# Altium schematic symbol library terminal_blocks.SchLib: 44 symbols
Pins are listed as number, name and electrical type; pins without a type are passive.

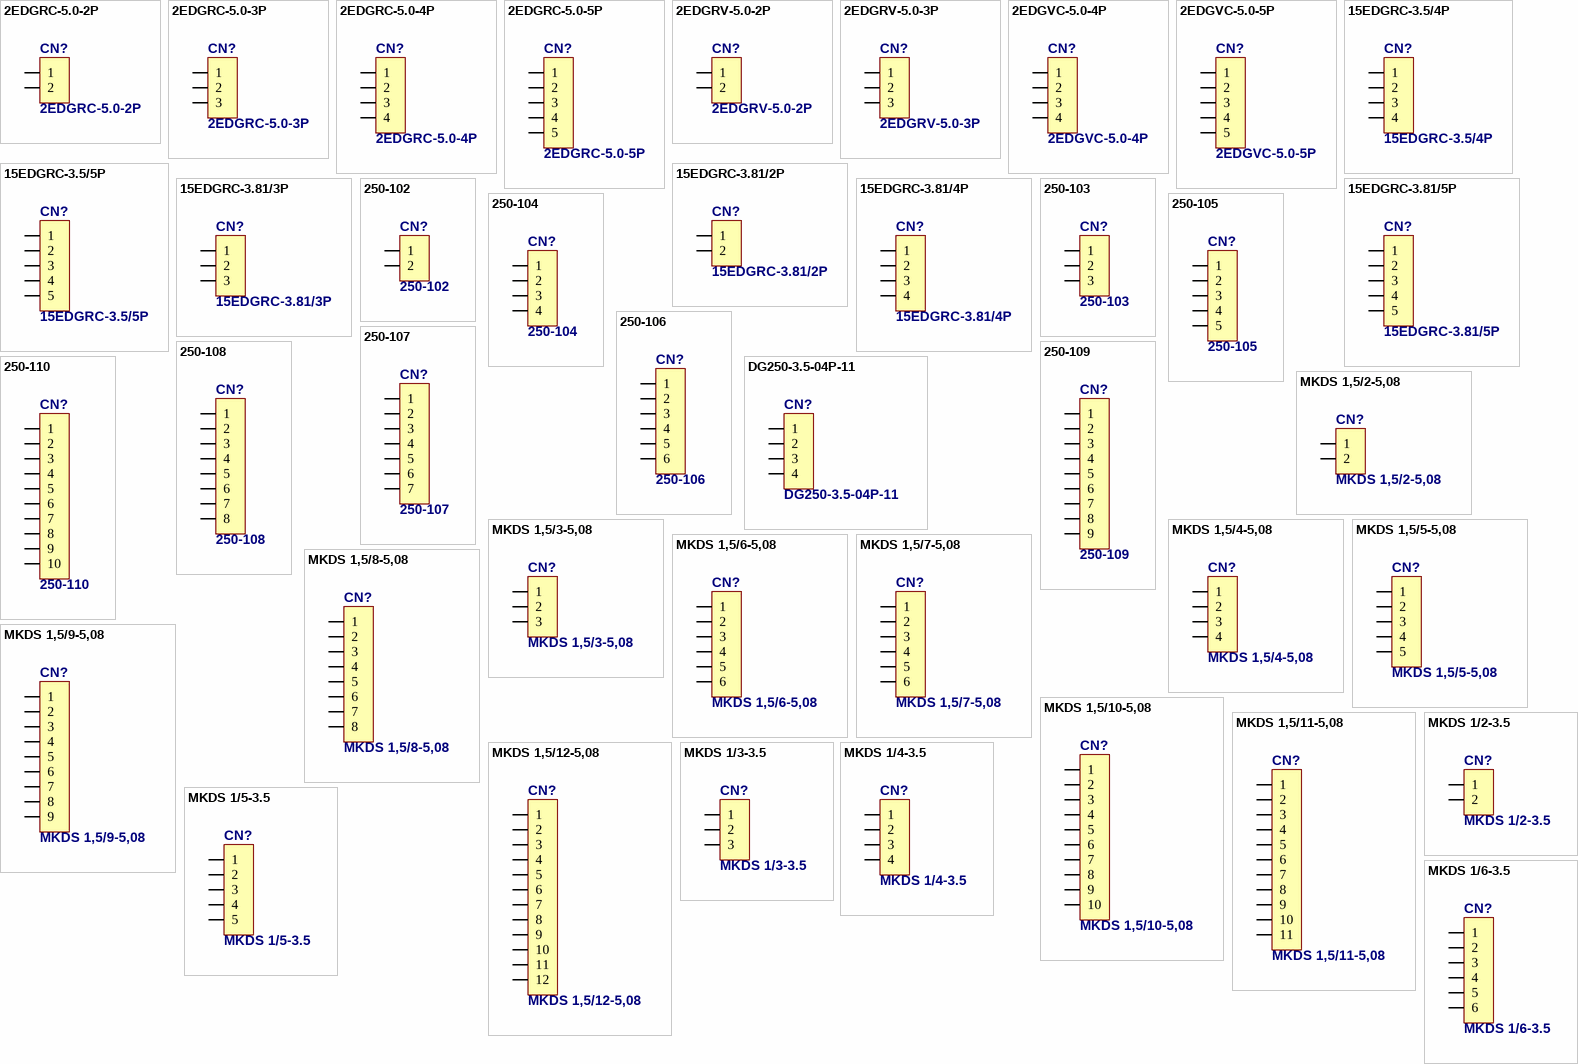
[diagram p0: symbols 2EDGRC-5.0-2P to MKDS 1/6-3.5]

## 2EDGRC-5.0-2P
designator CN?
Degson 20A, 320V, 2 Pole Plug-in Terminal Block
footprint 2EDGRC-5.0-2P_WO_CN (Degson 20A, 320V, 2 Pole Plug-in Terminal Block)
footprint 2EDGRC-5.0-2P_W_CN (Degson 20A, 320V, 2 Pole Plug-in Terminal Block)
pins: 1, 2

## 2EDGRC-5.0-3P
designator CN?
Degson 20A, 320V, 3 Pole Plug-in Terminal Block
footprint 2EDGRC-5.0-3P_WO_CN (Degson 20A, 320V, 3 Pole Plug-in Terminal Block)
footprint 2EDGRC-5.0-3P_W_CN (Degson 20A, 320V, 3 Pole Plug-in Terminal Block)
pins: 1, 2, 3

## 2EDGRC-5.0-4P
designator CN?
Degson 20A, 320V, 4 Pole Plug-in Terminal Block
footprint 2EDGRC-5.0-4P_WO_CN (Degson 20A, 320V, 4 Pole Plug-in Terminal Block)
footprint 2EDGRC-5.0-4P_W_CN (Degson 20A, 320V, 4 Pole Plug-in Terminal Block)
pins: 1, 2, 3, 4

## 2EDGRC-5.0-5P
designator CN?
Degson 20A, 320V, 5 Pole Plug-in Terminal Block
footprint 2EDGRC-5.0-5P_WO_CN (Degson 20A, 320V, 5 Pole Plug-in Terminal Block)
footprint 2EDGRC-5.0-5P_W_CN (Degson 20A, 320V, 5 Pole Plug-in Terminal Block)
pins: 1, 2, 3, 4, 5

## 2EDGRV-5.0-2P
designator CN?
Degson 20A, 320V, 2 Pole Plug-in Terminal Block
footprint 2EDGVC-5.0-2P_WO_CN (Degson 20A, 320V, 2 Pole Plug-in Terminal Block)
footprint 2EDGVC-5.0-2P_W_CN (Degson 20A, 320V, 2 Pole Plug-in Terminal Block)
pins: 1, 2

## 2EDGRV-5.0-3P
designator CN?
Degson 20A, 320V, 3 Pole Plug-in Terminal Block
footprint 2EDGVC-5.0-3P_WO_CN (Degson 20A, 320V, 3 Pole Plug-in Terminal Block)
footprint 2EDGVC-5.0-3P_W_CN (Degson 20A, 320V, 3 Pole Plug-in Terminal Block)
pins: 1, 2, 3

## 2EDGVC-5.0-4P
designator CN?
Degson 20A, 320V, 4 Pole Plug-in Terminal Block
footprint 2EDGVC-5.0-4P_WO_CN (Degson 20A, 320V, 4 Pole Plug-in Terminal Block)
footprint 2EDGVC-5.0-4P_W_CN (Degson 20A, 320V, 4 Pole Plug-in Terminal Block)
pins: 1, 2, 3, 4

## 2EDGVC-5.0-5P
designator CN?
Degson 20A, 320V, 5 Pole Plug-in Terminal Block
footprint 2EDGVC-5.0-5P_WO_CN (Degson 20A, 320V, 5 Pole Plug-in Terminal Block)
footprint 2EDGVC-5.0-5P_W_CN (Degson 20A, 320V, 5 Pole Plug-in Terminal Block)
pins: 1, 2, 3, 4, 5

## 15EDGRC-3.5/4P
designator CN?
Degson 7A, 250V, 4 Pole Plug-in Terminal Block
footprint 15EDGRC-3.5/4P_WO_CN (Degson 7A, 250V, 4 Pole Plug-in Terminal Block)
footprint 15EDGRC-3.5/4P_W_CN (Degson 7A, 250V, 4 Pole Plug-in Terminal Block)
pins: 1, 2, 3, 4

## 15EDGRC-3.5/5P
designator CN?
Degson 7A, 250V, 5 Pole Plug-in Terminal Block
footprint 15EDGRC-3.5/5P_WO_CN (Degson 7A, 250V, 5 Pole Plug-in Terminal Block)
footprint 15EDGRC-3.5/5P_W_CN (Degson 7A, 250V, 5 Pole Plug-in Terminal Block)
pins: 1, 2, 3, 4, 5

## 15EDGRC-3.81/2P
designator CN?
Degson 7A, 250V, 2 Pole Plug-in Terminal Block
footprint 15EDGRC-3.81/2P_WO_CN (Degson 7A, 250V, 2 Pole Plug-in Terminal Block)
footprint 15EDGRC-3.81/2P_W_CN (Degson 7A, 250V, 2 Pole Plug-in Terminal Block)
pins: 1, 2

## 15EDGRC-3.81/3P
designator CN?
Degson 7A, 250V, 3 Pole Plug-in Terminal Block
footprint 15EDGRC-3.81/3P_WO_CN (Degson 7A, 250V, 3 Pole Plug-in Terminal Block)
footprint 15EDGRC-3.81/3P_W_CN (Degson 7A, 250V, 3 Pole Plug-in Terminal Block)
pins: 1, 2, 3

## 15EDGRC-3.81/4P
designator CN?
Degson 7A, 250V, 4 Pole Plug-in Terminal Block
footprint 15EDGRC-3.81/4P_W_CN (Degson 7A, 250V, 4 Pole Plug-in Terminal Block)
footprint 15EDGRC-3.81/4P_WO_CN (Degson 7A, 250V, 4 Pole Plug-in Terminal Block)
pins: 1, 2, 3, 4

## 15EDGRC-3.81/5P
designator CN?
Degson 7A, 250V, 5 Pole Plug-in Terminal Block
footprint 15EDGRC-3.81/5P_W_CN (Degson 7A, 250V, 5 Pole Plug-in Terminal Block)
footprint 15EDGRC-3.81/5P_WO_CN (Degson 7A, 250V, 5 Pole Plug-in Terminal Block)
pins: 1, 2, 3, 4, 5

## 250-102
designator CN?
WAGO 250 Series 250-102 Connector
footprint WAGO 250-102 (Wago 250 Series 3,50mm, 2 Contacts)
footprint WAGO 250-102_LOEE (Wago 250 Series 3,50mm, 2 Contacts)
pins: 1, 2

## 250-103
designator CN?
WAGO 250 Series 250-103 Connector
footprint WAGO 250-103 (Wago 250 Series 3,50mm, 3 Contacts)
pins: 1, 2, 3

## 250-104
designator CN?
WAGO 250 Series 250-104 Connector
footprint WAGO 250-104 (Wago 250 Series 3,50mm, 4 Contacts)
footprint WAGO 250-104_w_wire (Wago 250 Series 3,50mm, 4 Contacts)
footprint WAGO 250-104_LoEE (Wago 250 Series 3,50mm, 4 Contacts)
pins: 1, 2, 3, 4

## 250-105
designator CN?
WAGO 250 Series 250-105 Connector
footprint WAGO 250-105 (Wago 250 Series 3,50mm, 5 Contacts)
footprint WAGO 250-105_LOEE (Wago 250 Series 3,50mm, 5 Contacts)
pins: 1, 2, 3, 4, 5

## 250-106
designator CN?
WAGO 250 Series 250-106 Connector
footprint WAGO 250-106 (Wago 250 Series 3,50mm, 6 Contacts)
pins: 1, 2, 3, 4, 5, 6

## 250-107
designator CN?
WAGO 250 Series 250-107 Connector
footprint WAGO 250-107 (Wago 250 Series 3,50mm, 7 Contacts)
pins: 1, 2, 3, 4, 5, 6, 7

## 250-108
designator CN?
WAGO 250 Series 250-108 Connector
footprint WAGO 250-108 (Wago 250 Series 3,50mm, 8 Contacts)
footprint WAGO 250-108_w_wire (Wago 250 Series 3,50mm, 8 Contacts)
footprint WAGO 250-108_LOEE (Wago 250 Series 3,50mm, 8 Contacts)
pins: 1, 2, 3, 4, 5, 6, 7, 8

## 250-109
designator CN?
WAGO 250 Series 250-109 Connector
footprint WAGO 250-109 (Wago 250 Series 3,50mm, 9 Contacts)
footprint WAGO 250-109_w_wire (Wago 250 Series 3,50mm, 9 Contacts)
footprint WAGO 250-109_LoEE (Wago 250 Series 3,50mm, 9 Contacts)
pins: 1, 2, 3, 4, 5, 6, 7, 8, 9

## 250-110
designator CN?
WAGO 250 Series 250-110 Connector
footprint WAGO 250-110 (Wago 250 Series 3,50mm, 10 Contacts)
footprint WAGO 250-110_W_WIRE (Wago 250 Series 3,50mm, 10 Contacts)
footprint WAGO 250-110_LoEE (Wago 250 Series 3,50mm, 10 Contacts)
pins: 1, 2, 3, 4, 5, 6, 7, 8, 9, 10

## DG250-3.5-04P-11
designator CN?
Degson PCB terminal block; push terminal; 3.5mm; with push button; 5A, 4 Pole Plug-in Terminal Block
footprint DG250-04
pins: 1, 2, 3, 4

## MKDS 1,5/2-5,08
designator CN?
Phoenix Contact MKDS 1,5, PITCH 5,08mm Terminal Block
footprint ARK2/3.5mm PITCH
footprint MKDS 1,5/2-5,08 (Phoenix Contact MKDS 1,5,  5,08mm PITCH PCB Terminal Block)
pins: 1, 2

## MKDS 1,5/3-5,08
designator CN?
Phoenix Contact MKDS 1,5, PITCH 5,08mm Terminal Block
footprint MKDS 1,5/3-5,08 (Phoenix Contact MKDS 1,5,  5,08mm PITCH PCB Terminal Block)
pins: 1, 2, 3

## MKDS 1,5/4-5,08
designator CN?
Phoenix Contact MKDS 1,5, PITCH 5,08mm Terminal Block
footprint MKDS 1,5/4-5,08 (Phoenix Contact MKDS 1,5,  5,08mm PITCH PCB Terminal Block)
pins: 1, 2, 3, 4

## MKDS 1,5/5-5,08
designator CN?
Phoenix Contact MKDS 1,5, PITCH 5,08mm Terminal Block
footprint MKDS 1,5/5-5,08 (Phoenix Contact MKDS 1,5,  5,08mm PITCH PCB Terminal Block)
pins: 1, 2, 3, 4, 5

## MKDS 1,5/6-5,08
designator CN?
Phoenix Contact MKDS 1,5, PITCH 5,08mm Terminal Block
footprint MKDS 1,5/6-5,08 (Phoenix Contact MKDS 1,5,  5,08mm PITCH PCB Terminal Block)
pins: 1, 2, 3, 4, 5, 6

## MKDS 1,5/7-5,08
designator CN?
Phoenix Contact MKDS 1,5, PITCH 5,08mm Terminal Block
footprint MKDS 1,5/7-5,08 (Phoenix Contact MKDS 1,5,  5,08mm PITCH PCB Terminal Block)
pins: 1, 2, 3, 4, 5, 6

## MKDS 1,5/8-5,08
designator CN?
Phoenix Contact MKDS 1,5, PITCH 5,08mm Terminal Block
footprint MKDS 1,5/8-5,08 (Phoenix Contact MKDS 1,5,  5,08mm PITCH PCB Terminal Block)
pins: 1, 2, 3, 4, 5, 6, 7, 8

## MKDS 1,5/9-5,08
designator CN?
Phoenix Contact MKDS 1,5, PITCH 5,08mm Terminal Block
footprint MKDS 1,5/9-5,08 (Phoenix Contact MKDS 1,5,  5,08mm PITCH PCB Terminal Block)
pins: 1, 2, 3, 4, 5, 6, 7, 8, 9

## MKDS 1,5/10-5,08
designator CN?
Phoenix Contact MKDS 1,5, PITCH 5,08mm Terminal Block
footprint MKDS 1,5/10-5,08
pins: 1, 2, 3, 4, 5, 6, 7, 8, 9, 10

## MKDS 1,5/11-5,08
designator CN?
Phoenix Contact MKDS 1,5, PITCH 5,08mm Terminal Block
footprint MKDS 1,5/11-5,08 (Phoenix Contact MKDS 1,5,  5,08mm PITCH PCB Terminal Block)
pins: 1, 2, 3, 4, 5, 6, 7, 8, 9, 10, 11

## MKDS 1,5/12-5,08
designator CN?
Phoenix Contact MKDS 1,5, PITCH 5,08mm Terminal Block
footprint MKDS 1,5/12-5,08
pins: 1, 2, 3, 4, 5, 6, 7, 8, 9, 10, 11, 12

## MKDS 1/2-3.5
designator CN?
Phoenix Contact MKDS 1, PITCH 3,50mm Terminal Block
footprint MKDS 1/2-3,50 (Phoenix Contact MKDS 1, 3,50mm PITCH PCB Terminal Block)
pins: 1, 2

## MKDS 1/3-3.5
designator CN?
Phoenix Contact MKDS 1, PITCH 3,50mm Terminal Block
footprint MKDS 1/3-3,50 (Phoenix Contact MKDS 1, 3,50mm PITCH PCB Terminal Block)
pins: 1, 2, 3

## MKDS 1/4-3.5
designator CN?
Phoenix Contact MKDS 1, PITCH 3,50mm Terminal Block
footprint MKDS 1/4-3,50 (Phoenix Contact MKDS 1, 3,50mm PITCH PCB Terminal Block)
pins: 1, 2, 3, 4

## MKDS 1/5-3.5
designator CN?
Phoenix Contact MKDS 1, PITCH 3,50mm Terminal Block
footprint MKDS 1/5-3,50 (Phoenix Contact MKDS 1, 3,50mm PITCH PCB Terminal Block)
pins: 1, 2, 3, 4, 5

## MKDS 1/6-3.5
designator CN?
Phoenix Contact MKDS 1, PITCH 3,50mm Terminal Block
footprint MKDS 1/6-3,50 (Phoenix Contact MKDS 1, 3,50mm PITCH PCB Terminal Block)
pins: 1, 2, 3, 4, 5, 6

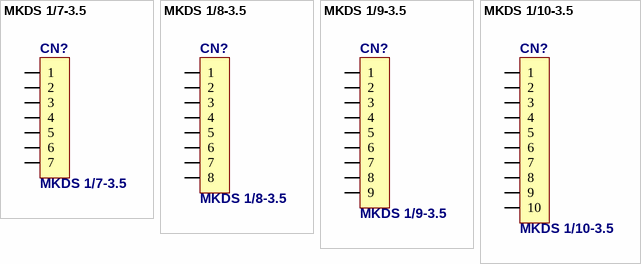
[diagram p1: symbols MKDS 1/7-3.5 to MKDS 1/10-3.5]

## MKDS 1/7-3.5
designator CN?
Phoenix Contact MKDS 1, PITCH 3,50mm Terminal Block
footprint MKDS 1/7-3,50 (Phoenix Contact MKDS 1, 3,50mm PITCH PCB Terminal Block)
pins: 1, 2, 3, 4, 5, 6, 7

## MKDS 1/8-3.5
designator CN?
Phoenix Contact MKDS 1, PITCH 3,50mm Terminal Block
footprint MKDS 1/8-3,50 (Phoenix Contact MKDS 1, 3,50mm PITCH PCB Terminal Block)
pins: 1, 2, 3, 4, 5, 6, 7, 8

## MKDS 1/9-3.5
designator CN?
Phoenix Contact MKDS 1, PITCH 3,50mm Terminal Block
footprint MKDS 1/9-3,50 (Phoenix Contact MKDS 1, 3,50mm PITCH PCB Terminal Block)
pins: 1, 2, 3, 4, 5, 6, 7, 8, 9

## MKDS 1/10-3.5
designator CN?
Phoenix Contact MKDS 1, PITCH 3,50mm Terminal Block
footprint MKDS 1/10-3,50
pins: 1, 2, 3, 4, 5, 6, 7, 8, 9, 10